# Altium footprint library amp.PcbLib: 8 footprints
Each footprint in its own frame and in the unit in brackets; x right, y up, seen from the top. Pads: shape width x height; smd on the part's side, far side on the other; paste and mask are expansions set on the pad; w line width, h text height; cw(c..) or ccw(c..) is an arc to the next point about the centre after c.
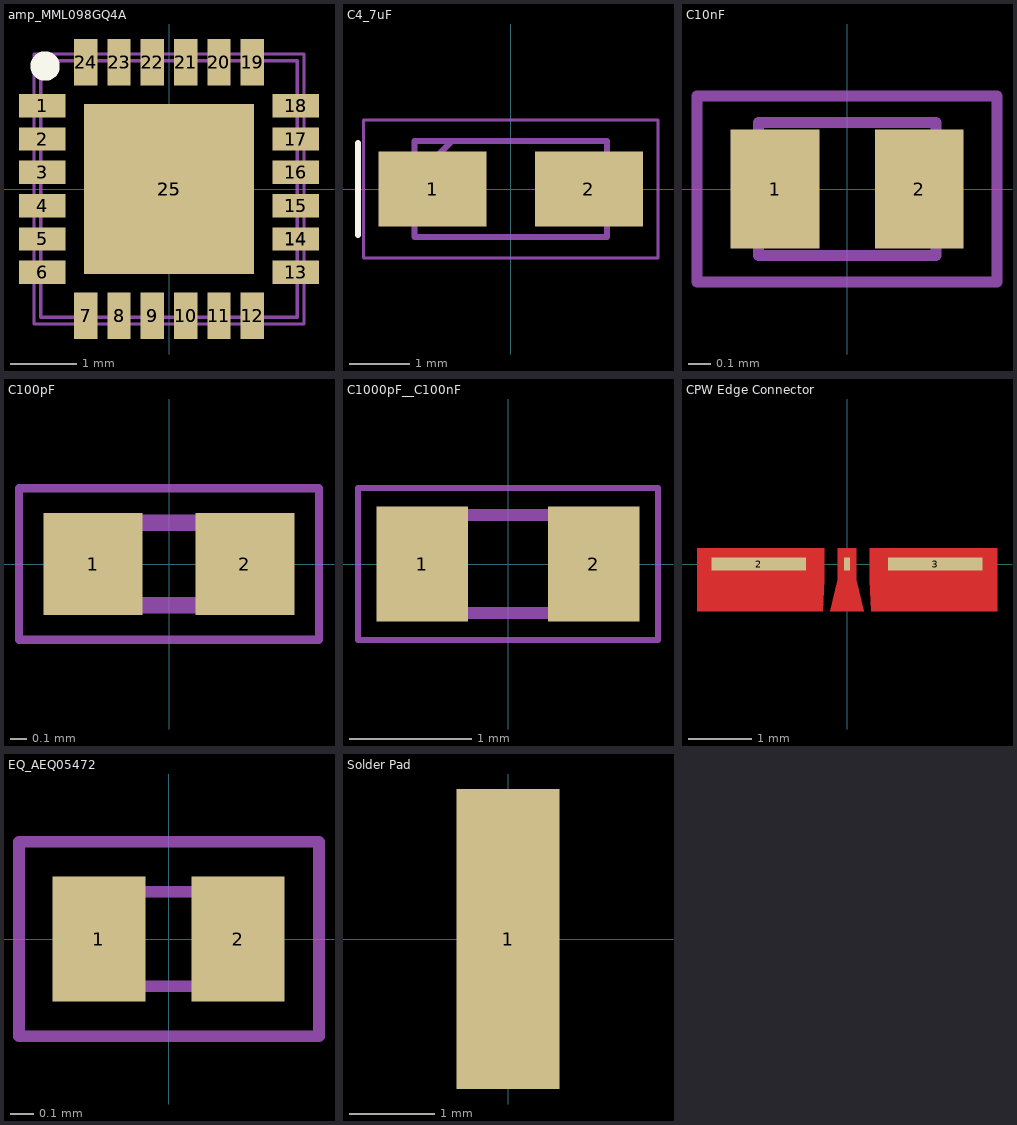
[diagram p0: the footprints below, top view; thin cyan lines are the x and y axes]

## amp_MML098GQ4A [mm]
pads (50):
  rect 0.7x0.35 smd: 1(-1.9,1.25) 2(-1.9,0.75) 3(-1.9,0.25) 4(-1.9,-0.25) 5(-1.9,-0.75) 6(-1.9,-1.25) 13(1.9,-1.25) 14(1.9,-0.75) 15(1.9,-0.25) 16(1.9,0.25) 17(1.9,0.75) 18(1.9,1.25)
  rect 0.7x0.35 on Top Paste: 1(-1.9,1.25) 2(-1.9,0.75) 3(-1.9,0.25) 4(-1.9,-0.25) 5(-1.9,-0.75) 6(-1.9,-1.25) 13(1.9,-1.25) 14(1.9,-0.75) 15(1.9,-0.25) 16(1.9,0.25) 17(1.9,0.75) 18(1.9,1.25)
  rect 0.35x0.7 smd: 7(-1.25,-1.9) 8(-0.75,-1.9) 9(-0.25,-1.9) 10(0.25,-1.9) 11(0.75,-1.9) 12(1.25,-1.9) 19(1.25,1.9) 20(0.75,1.9) 21(0.25,1.9) 22(-0.25,1.9) 23(-0.75,1.9) 24(-1.25,1.9)
  rect 0.35x0.7 on Top Paste: 7(-1.25,-1.9) 8(-0.75,-1.9) 9(-0.25,-1.9) 10(0.25,-1.9) 11(0.75,-1.9) 12(1.25,-1.9) 19(1.25,1.9) 20(0.75,1.9) 21(0.25,1.9) 22(-0.25,1.9) 23(-0.75,1.9) 24(-1.25,1.9)
  rect 2.55x2.55 smd: 25(0,0)
  rect 2.5x2.5 on Top Paste: 25(0,0)
Top Overlay:
  circle w0.24: c-1.859,1.844 r0.1
Top Assembly:
  lines w0.05: -2.025,-2.025 -2.025,2.025 2.025,2.025 2.025,-2.025 -2.025,-2.025
  lines w0.055: -1.925,-1.925 -1.925,1.925 1.925,1.925 1.925,-1.925 -1.925,-1.925
  text ".Designator" at -4,-0.283 h0.8
3D body "MML098Q4A.stp": height 1.05, standoff 0, extent -2.05,-2.05 2.05,2.05

## C4_7uF [mm]
pads (2):
  rect 1.8x1.25 smd: 1(-1.3,0) 2(1.3,0)
Top Overlay:
  lines w0.1: -2.54,-0.762 -2.54,0.762
Top Assembly:
  lines w0.05: -2.45,-1.15 2.45,-1.15 2.45,1.15 -2.45,1.15 -2.45,-1.15
  lines w0.1: -1.6,0.175 -0.975,0.8 ; -1.6,-0.8 1.6,-0.8 1.6,0.8 -1.6,0.8 -1.6,-0.8
  text ".Designator" at -3.499,-0.233 h0.7
3D body "C4_7uF.stp": height 1.84, standoff 0.01, extent -1.702,-0.948 1.702,0.95

## C10nF [mm]
pads (2):
  rect 0.4x0.538 smd: 1(-0.325,0) 2(0.325,0)
Top Assembly:
  lines w0.05: -0.677,-0.42 0.676,-0.42 0.676,0.42 -0.677,0.42 -0.677,-0.42 ; -0.4,-0.3 0.4,-0.3 0.4,0.3 -0.4,0.3 -0.4,-0.3
  text ".Designator" at -1.998,-0.133 h0.4
3D body "C10nF.stp": height 0.14, standoff 0, extent -0.4,-0.3 0.4,0.3

## C100pF [mm]
pads (2):
  rect 0.6x0.62 smd: 1(-0.46,0) 2(0.46,0)
Top Assembly:
  lines w0.05: -0.91,-0.46 -0.91,0.46 0.91,0.46 0.91,-0.46 -0.91,-0.46
  lines w0.1: -0.5,-0.25 -0.5,0.25 0.5,0.25 0.5,-0.25 -0.5,-0.25
  text ".Designator" at -1.999,-0.133 h0.4
3D body "C100pF.stp": height 0.55, standoff 0, extent -0.5,-0.25 0.5,0.25

## C1000pF__C100nF [mm]
pads (2):
  rect 0.75x0.94 smd: 1(-0.7,0) 2(0.7,0)
Top Assembly:
  lines w0.05: -1.225,-0.62 1.225,-0.62 1.225,0.62 -1.225,0.62 -1.225,-0.62
  lines w0.1: -0.8,-0.4 0.8,-0.4 0.8,0.4 -0.8,0.4 -0.8,-0.4
  text ".Designator" at -2.499,-0.167 h0.5
3D body "C1000pF.stp": height 0.9, standoff 0, extent -0.8,-0.4 0.8,0.4

## CPW Edge Connector [mm]
pads (3):
  rect 0.1x0.2 smd paste-2539.97: 1(0,0)
  rect 1.5x0.2 smd paste-2539.97: 2(-1.4,0) 3(1.4,0)
Top Layer:
  region: -2.383,0.25 -0.361,0.25 -0.361,-0.25 -0.383,-0.75 -2.383,-0.75
  region: -0.15,0.25 0.15,0.25 0.15,-0.25 0.269,-0.75 -0.269,-0.75 -0.15,-0.25
  region: 2.383,0.25 0.361,0.25 0.361,-0.25 0.383,-0.75 2.383,-0.75

## EQ_AEQ05472 [mm]
pads (2):
  rect 0.4x0.538 smd: 1(-0.3,0) 2(0.3,0)
Top Assembly:
  lines w0.05: -0.645,-0.42 0.649,-0.42 0.649,0.42 -0.645,0.42 -0.645,-0.42 ; -0.356,-0.203 -0.356,0.203 0.356,0.203 0.356,-0.203 -0.356,-0.203
  text ".Designator" at -1.998,-0.133 h0.4
3D body "C10nF.stp": height 0.14, standoff 0, extent -0.4,-0.3 0.4,0.3

## Solder Pad [mm]
pads (1):
  rect 1.2x3.5 smd paste-2539.97: 1(0,0)
Top Assembly:
  text ".Designator" at 0.233,-3.499 h0.7